# EAGLE library part SI9120DY-T1-E3 (library Vishay_By_element14_Batch_1)
Universal Input Switchmode Controller
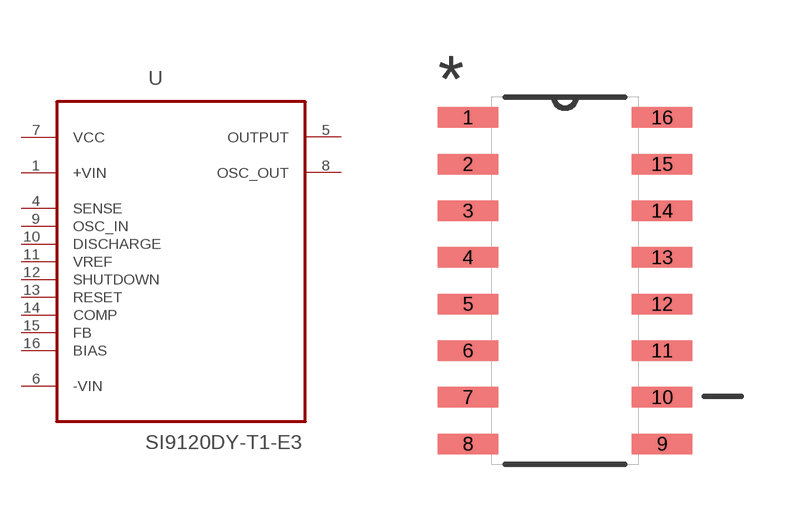
[diagram p97: symbol with the pads of SOIC127P600X175-16N; footprint SOIC127P600X175-16N]

Designator prefix U

## SI9120DY-T1-E3 (MPN: SI9120DY-T1-E3; OC_FARNELL: 1469444; OC_NEWARK: 65K1952; PACKAGE: SOIC-16; SUPPLIER: Vishay Siliconix)  [SOIC127P600X175-16N]
1  +VIN  in
4  SENSE  in
5  OUTPUT  out
6  -VIN  in
7  VCC  pwr
8  OSC_OUT  out
9  OSC_IN  in
10  DISCHARGE  pas
11  VREF  in
12  SHUTDOWN  in
13  RESET  in
14  COMP  pas
15  FB  in
16  BIAS  in

## Footprint SOIC127P600X175-16N (pad centres in mm)
smd 1.651 x 0.559: 1 -2.642,4.445; 2 -2.642,3.175; 3 -2.642,1.905; 4 -2.642,0.635; 5 -2.642,-0.635; 6 -2.642,-1.905; 7 -2.642,-3.175; 8 -2.642,-4.445; 9 2.642,-4.445; 10 2.642,-3.175; 11 2.642,-1.905; 12 2.642,-0.635; 13 2.642,0.635; 14 2.642,1.905; 15 2.642,3.175; 16 2.642,4.445